# Altium footprint library RES0805.PcbLib: 1 footprints
Each footprint in its own frame and in the unit in brackets; x right, y up, seen from the top. Pads: shape width x height; smd on the part's side, far side on the other; paste and mask are expansions set on the pad; w line width, h text height; cw(c..) or ccw(c..) is an arc to the next point about the centre after c.
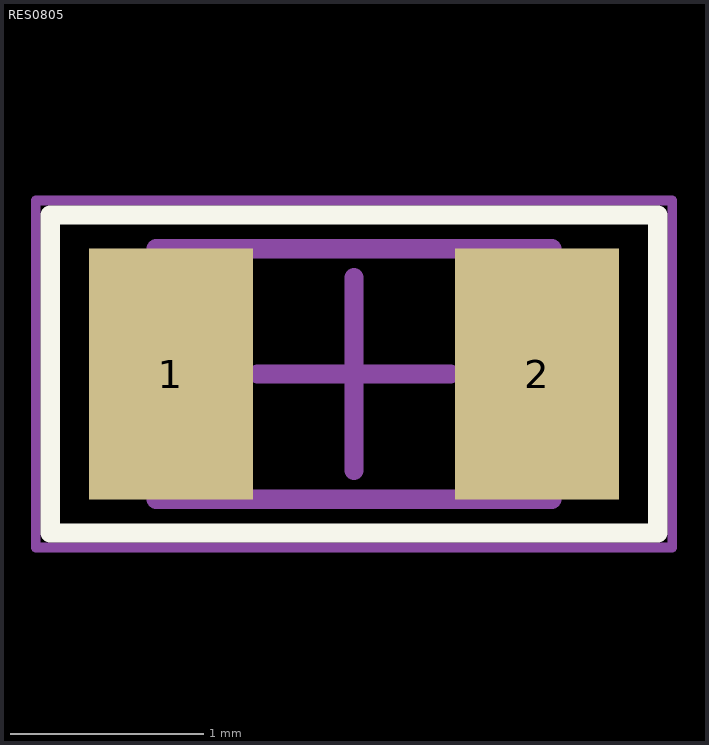
[diagram p0: the footprint, top view; thin cyan lines are the x and y axes]

## RES0805 [mm]
height 0.5
pads (2):
  rect 0.85x1.3 smd: 1(2.737,2.313) 2(4.637,2.313)
Top Overlay:
  lines w0.1: 2.112,1.488 2.112,3.138 4.475,3.138 5.262,3.138 5.262,1.488 4.475,1.488 2.112,1.488
Mechanical 13:
  lines w0.1: 2.662,1.663 2.662,2.963 4.712,2.963 4.712,1.663 2.662,1.663
Mechanical 15:
  lines w0.05: 2.037,1.413 2.037,3.213 5.337,3.213 5.337,1.413 2.037,1.413
  lines w0.1: 3.187,2.313 4.187,2.313 ; 3.687,1.813 3.687,2.813
3D body "RES0805.step": height 0.5, standoff 0, extent 2.662,1.663 4.712,2.963